# Altium schematic symbol library TDA2030.SchLib: 1 symbol
Pins are listed as number, name and electrical type; pins without a type are passive.

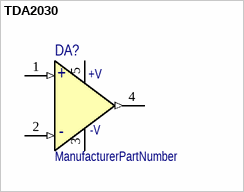
[diagram p0: symbol TDA2030]

## TDA2030
designator DA?  (value not drawn)
ManufacturerPartNumber: ManufacturerPartNumber
pins: 1 (in), 2 (in), 3 -Vs (power), 4 OUT (out), 5 +Vs (power)
1 alternate drawing of the same symbol
text: +; +V; -V; -